# Altium schematic symbol library SparkFun-DiscreteSemi.SCHLIB: 94 symbols
Pins are listed as number, name and electrical type; pins without a type are passive.

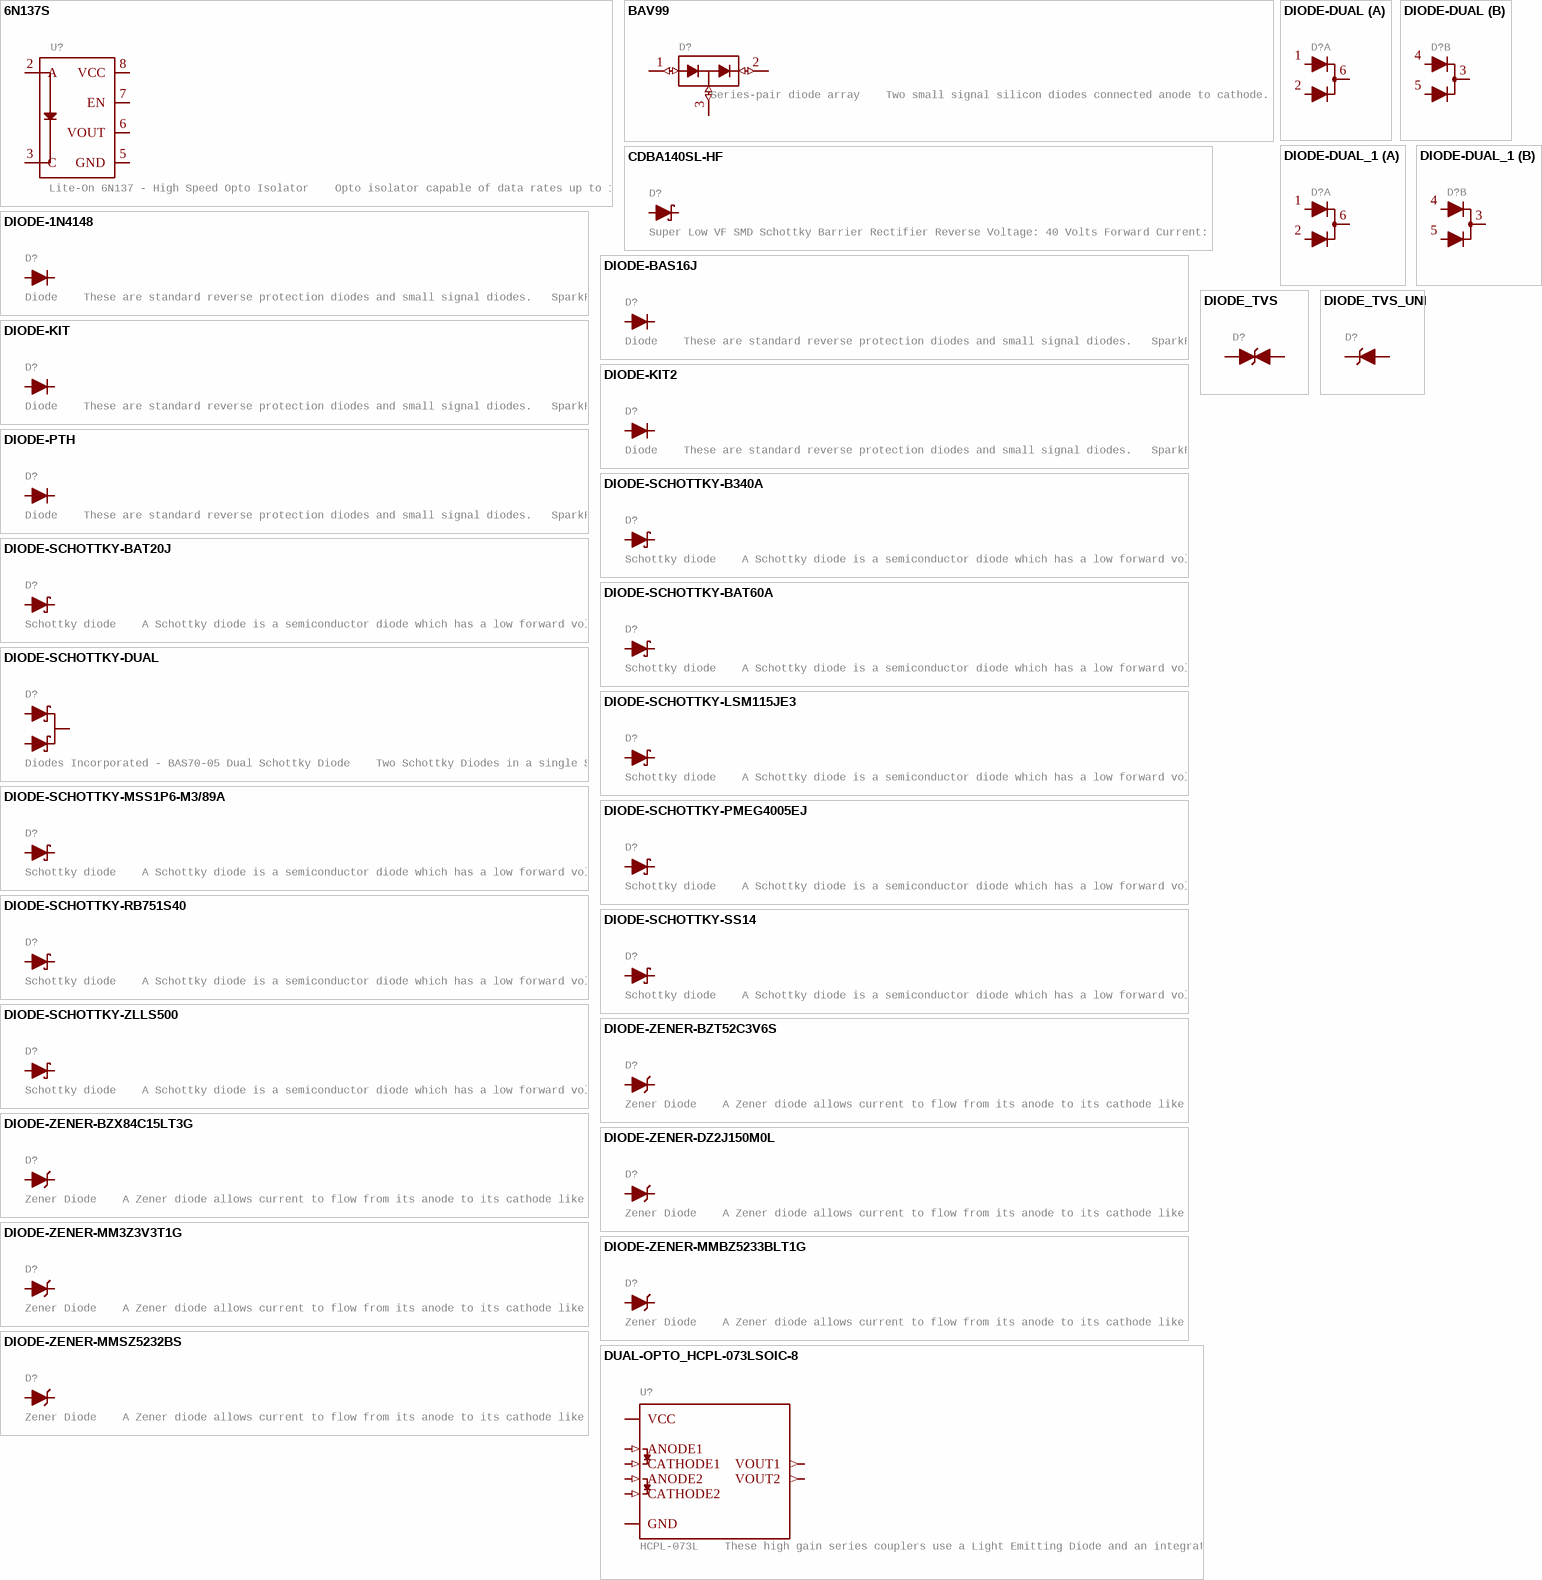
[diagram p0: symbols 6N137S to DUAL-OPTO_HCPL-073LSOIC-8]

## 6N137S
designator U?, comment Lite-On 6N137 - High Speed Opto Isolator    Opto isolator capable of data rates up to 10MBd
GateName_1: G$1; SymbolName_1: OPTO_DARLINGTON_6N137; DeviceSetName: 6N137S; PROD_ID: IC-14151; LibraryName: SparkFun-DiscreteSemi; Package: 8-SMD
footprint 8-SMD
pins: 2 A (io), 3 C (io), 5 GND (io), 6 VOUT (io), 7 EN (io), 8 VCC (io)

## BAV99
designator D?, comment Series-pair diode array    Two small signal silicon diodes connected anode to cathode. Connections to all three nodes available.   Link to datasheet   SparkFun Products: SparkFun AutoDriver
GateName_1: G$1; SymbolName_1: BAV99; PROD_ID: DIO-10647; LibraryName: SparkFun-DiscreteSemi; DeviceSetName: BAV99; Package: SOT23-3
footprint SOT23-3
pins: 1 A1 (io), 2 C2 (io), 3 COM (io)

## CDBA140SL-HF
designator D?, comment Super Low VF SMD Schottky Barrier Rectifier Reverse Voltage: 40 Volts Forward Current: 1.0 Amp
GateName_1: G$1; SymbolName_1: DIODE-SCHOTTKY; DeviceSetName: CDBA140SL-HF; LibraryName: SparkFun-DiscreteSemi; Package: SMA-DIODE
footprint SMA-DIODE
pins: A, C

## DIODE-1N4148
designator D?, comment Diode    These are standard reverse protection diodes and small signal diodes.   SparkFun Products: SparkFun SparkPunk Sound Kit  SparkFun ESP8266 Thing
GateName_1: G$1; DeviceName: -1N4148; PROD_ID: DIO-08378; SymbolName_1: DIODE; LibraryName: SparkFun-DiscreteSemi; DeviceSetName: DIODE; Package: DIODE-1N4148
footprint DIODE-1N4148
pins: A, C

## DIODE-BAS16J
designator D?, comment Diode    These are standard reverse protection diodes and small signal diodes.   SparkFun Products: SparkFun SparkPunk Sound Kit  SparkFun ESP8266 Thing
GateName_1: G$1; DeviceName: -BAS16J; PROD_ID: DIO-09646; SymbolName_1: DIODE; LibraryName: SparkFun-DiscreteSemi; DeviceSetName: DIODE; Package: SOD-323
footprint SOD-323
pins: A, C

## DIODE-DUAL
designator D?
GateName_1: G1; SymbolName_1: DIODE-DUAL; GateName_2: G2; PROD_ID: DIO-15412; SymbolName_2: DIODE-DUAL; LibraryName: SparkFun-DiscreteSemi; DeviceSetName: DIODE-DUAL; Package: SOT363
footprint SOT363
part A pins: 1 A1, 2 A2, 6 C
part B pins: 3 C, 4 A1, 5 A2

## DIODE-DUAL_1
designator D?
GateName_1: G1; SymbolName_1: DIODE-DUAL; GateName_2: G2; PROD_ID: DIO-15412; SymbolName_2: DIODE-DUAL; LibraryName: SparkFun-DiscreteSemi; DeviceSetName: DIODE-DUAL; Package: SOT363
footprint SOT363
part A pins: 1 A1, 2 A2, 6 C
part B pins: 3 C, 4 A1, 5 A2

## DIODE-KIT
designator D?, comment Diode    These are standard reverse protection diodes and small signal diodes.   SparkFun Products: SparkFun SparkPunk Sound Kit  SparkFun ESP8266 Thing
GateName_1: G$1; DeviceName: -KIT; PROD_ID: DIO-08378; SymbolName_1: DIODE; LibraryName: SparkFun-DiscreteSemi; DeviceSetName: DIODE; Package: DIODE-1N4148-KIT
footprint DIODE-1N4148-KIT
pins: A, C

## DIODE-KIT2
designator D?, comment Diode    These are standard reverse protection diodes and small signal diodes.   SparkFun Products: SparkFun SparkPunk Sound Kit  SparkFun ESP8266 Thing
GateName_1: G$1; DeviceName: -KIT2; PROD_ID: DIO-09176; SymbolName_1: DIODE; LibraryName: SparkFun-DiscreteSemi; DeviceSetName: DIODE; Package: DIODE-1N4001-KIT
footprint DIODE-1N4001-KIT
pins: A, C

## DIODE-PTH
designator D?, comment Diode    These are standard reverse protection diodes and small signal diodes.   SparkFun Products: SparkFun SparkPunk Sound Kit  SparkFun ESP8266 Thing
GateName_1: G$1; DeviceName: -PTH; PROD_ID: DIO-09176; SymbolName_1: DIODE; LibraryName: SparkFun-DiscreteSemi; DeviceSetName: DIODE; Package: DIODE-1N4001
footprint DIODE-1N4001
pins: A, C

## DIODE-SCHOTTKY-B340A
designator D?, comment Schottky diode    A Schottky diode is a semiconductor diode which has a low forward voltage drop and a very fast switching action.
GateName_1: G$1; SymbolName_1: DIODE-SCHOTTKY; DeviceName: -B340A; PROD_ID: DIO-09886; LibraryName: SparkFun-DiscreteSemi; DeviceSetName: DIODE-SCHOTTKY; Package: SMA-DIODE
footprint SMA-DIODE
pins: A, C

## DIODE-SCHOTTKY-BAT20J
designator D?, comment Schottky diode    A Schottky diode is a semiconductor diode which has a low forward voltage drop and a very fast switching action.
GateName_1: G$1; SymbolName_1: DIODE-SCHOTTKY; DeviceName: -BAT20J; PROD_ID: DIO-11623; LibraryName: SparkFun-DiscreteSemi; DeviceSetName: DIODE-SCHOTTKY; Package: SOD-323
footprint SOD-323
pins: A, C

## DIODE-SCHOTTKY-BAT60A
designator D?, comment Schottky diode    A Schottky diode is a semiconductor diode which has a low forward voltage drop and a very fast switching action.
GateName_1: G$1; SymbolName_1: DIODE-SCHOTTKY; DeviceName: -BAT60A; PROD_ID: DIO-14072; LibraryName: SparkFun-DiscreteSemi; DeviceSetName: DIODE-SCHOTTKY; Package: SOD-323
footprint SOD-323
pins: A, C

## DIODE-SCHOTTKY-DUAL
designator D?, comment Diodes Incorporated - BAS70-05 Dual Schottky Diode    Two Schottky Diodes in a single SOT-23 package. Low reverse current (100 nA) Vf:   Datasheet referenced for footprint
GateName_1: G$1; SymbolName_1: DIODE-SCHOTTKY-DUAL; PROD_ID: DIO-14829; LibraryName: SparkFun-DiscreteSemi; DeviceSetName: DIODE-SCHOTTKY-DUAL; Package: SOT23-3
footprint SOT23-3
pins: 1 A, 2 A1, 3 C

## DIODE-SCHOTTKY-LSM115JE3
designator D?, comment Schottky diode    A Schottky diode is a semiconductor diode which has a low forward voltage drop and a very fast switching action.
GateName_1: G$1; SymbolName_1: DIODE-SCHOTTKY; DeviceName: -LSM115JE3; PROD_ID: DIO-15217; LibraryName: SparkFun-DiscreteSemi; DeviceSetName: DIODE-SCHOTTKY; Package: DO-214BA
footprint DO-214BA
pins: A, C

## DIODE-SCHOTTKY-MSS1P6-M3/89A
designator D?, comment Schottky diode    A Schottky diode is a semiconductor diode which has a low forward voltage drop and a very fast switching action.
GateName_1: G$1; SymbolName_1: DIODE-SCHOTTKY; DeviceName: -MSS1P6-M3/89A; PROD_ID: DIO-13919; LibraryName: SparkFun-DiscreteSemi; DeviceSetName: DIODE-SCHOTTKY; Package: DIODE-MICRO-SMP
footprint DIODE-MICRO-SMP
pins: A, C

## DIODE-SCHOTTKY-PMEG4005EJ
designator D?, comment Schottky diode    A Schottky diode is a semiconductor diode which has a low forward voltage drop and a very fast switching action.
GateName_1: G$1; SymbolName_1: DIODE-SCHOTTKY; DeviceName: -PMEG4005EJ; PROD_ID: DIO-10955; LibraryName: SparkFun-DiscreteSemi; DeviceSetName: DIODE-SCHOTTKY; Package: SOD-323
footprint SOD-323
pins: A, C

## DIODE-SCHOTTKY-RB751S40
designator D?, comment Schottky diode    A Schottky diode is a semiconductor diode which has a low forward voltage drop and a very fast switching action.
GateName_1: G$1; SymbolName_1: DIODE-SCHOTTKY; DeviceName: -RB751S40; PROD_ID: DIO-11018; LibraryName: SparkFun-DiscreteSemi; DeviceSetName: DIODE-SCHOTTKY; Package: SOD-523
footprint SOD-523
pins: A, C

## DIODE-SCHOTTKY-SS14
designator D?, comment Schottky diode    A Schottky diode is a semiconductor diode which has a low forward voltage drop and a very fast switching action.
GateName_1: G$1; SymbolName_1: DIODE-SCHOTTKY; DeviceName: -SS14; PROD_ID: DIO-08053; LibraryName: SparkFun-DiscreteSemi; DeviceSetName: DIODE-SCHOTTKY; Package: SMA-DIODE
footprint SMA-DIODE
pins: A, C

## DIODE-SCHOTTKY-ZLLS500
designator D?, comment Schottky diode    A Schottky diode is a semiconductor diode which has a low forward voltage drop and a very fast switching action.
GateName_1: G$1; SymbolName_1: DIODE-SCHOTTKY; DeviceName: -ZLLS500; PROD_ID: DIO-08411; LibraryName: SparkFun-DiscreteSemi; DeviceSetName: DIODE-SCHOTTKY; Package: SOT23-3
footprint SOT23-3
pins: 1 A, 3 C

## DIODE-ZENER-BZT52C3V6S
designator D?, comment Zener Diode    A Zener diode allows current to flow from its anode to its cathode like a normal semiconductor diode, but it also permits current to flow in the reverse direction when its "Zener voltage" is reached. - WIkipedia
GateName_1: G$1; SymbolName_1: DIODE-ZENER; DeviceName: -BZT52C3V6S; PROD_ID: DIO-08199; LibraryName: SparkFun-DiscreteSemi; DeviceSetName: DIODE-ZENER; Package: SOD-323
footprint SOD-323
pins: A, C

## DIODE-ZENER-BZX84C15LT3G
designator D?, comment Zener Diode    A Zener diode allows current to flow from its anode to its cathode like a normal semiconductor diode, but it also permits current to flow in the reverse direction when its "Zener voltage" is reached. - WIkipedia
GateName_1: G$1; SymbolName_1: DIODE-ZENER; DeviceName: -BZX84C15LT3G; PROD_ID: DIO-15071; LibraryName: SparkFun-DiscreteSemi; DeviceSetName: DIODE-ZENER; Package: SOT23-3
footprint SOT23-3
pins: 1 A, 3 C

## DIODE-ZENER-DZ2J150M0L
designator D?, comment Zener Diode    A Zener diode allows current to flow from its anode to its cathode like a normal semiconductor diode, but it also permits current to flow in the reverse direction when its "Zener voltage" is reached. - WIkipedia
GateName_1: G$1; SymbolName_1: DIODE-ZENER; DeviceName: -DZ2J150M0L; PROD_ID: DIO-12989; LibraryName: SparkFun-DiscreteSemi; DeviceSetName: DIODE-ZENER; Package: PANASONIC_SMINI2-F5-B
footprint PANASONIC_SMINI2-F5-B
pins: A, C

## DIODE-ZENER-MM3Z3V3T1G
designator D?, comment Zener Diode    A Zener diode allows current to flow from its anode to its cathode like a normal semiconductor diode, but it also permits current to flow in the reverse direction when its "Zener voltage" is reached. - WIkipedia
GateName_1: G$1; SymbolName_1: DIODE-ZENER; DeviceName: -MM3Z3V3T1G; PROD_ID: DIO-11284; LibraryName: SparkFun-DiscreteSemi; DeviceSetName: DIODE-ZENER; Package: SOD-323
footprint SOD-323
pins: A, C

## DIODE-ZENER-MMBZ5233BLT1G
designator D?, comment Zener Diode    A Zener diode allows current to flow from its anode to its cathode like a normal semiconductor diode, but it also permits current to flow in the reverse direction when its "Zener voltage" is reached. - WIkipedia
GateName_1: G$1; SymbolName_1: DIODE-ZENER; DeviceName: -MMBZ5233BLT1G; PROD_ID: DIO-14123; LibraryName: SparkFun-DiscreteSemi; DeviceSetName: DIODE-ZENER; Package: SOT23-3
footprint SOT23-3
pins: 1 A, 3 C

## DIODE-ZENER-MMSZ5232BS
designator D?, comment Zener Diode    A Zener diode allows current to flow from its anode to its cathode like a normal semiconductor diode, but it also permits current to flow in the reverse direction when its "Zener voltage" is reached. - WIkipedia
GateName_1: G$1; SymbolName_1: DIODE-ZENER; DeviceName: -MMSZ5232BS; PROD_ID: DIO-12442; LibraryName: SparkFun-DiscreteSemi; DeviceSetName: DIODE-ZENER; Package: SOD-323
footprint SOD-323
pins: A, C

## DIODE_TVS
designator D?
GateName_1: G$1; SymbolName_1: DIODE-TVS; DeviceSetName: DIODE_TVS; PROD_ID: DIO-14502; LibraryName: SparkFun-DiscreteSemi; Package: 0603
footprint 0603
pins: 1 A, 2 C

## DIODE_TVS_UNI
designator D?
GateName_1: G$1; SymbolName_1: DIODE-TVS_UNI; DeviceSetName: DIODE_TVS_UNI; PROD_ID: DIO-15812; LibraryName: SparkFun-DiscreteSemi; Package: DO-214AC
footprint DO-214AC
pins: A, C

## DUAL-OPTO_HCPL-073LSOIC-8
designator U?, comment HCPL-073L    These high gain series couplers use a Light Emitting Diode and an integrated high gain photodetector to provide extremely high current transfer ratio between input and output. Separate pins for the photodiode and output stage result in LVTTL compatible saturation voltages and high speed operation. Where desired, the VCC and VO terminals may be tied together to achieve conventional photo-darlington operation. A base access terminal allows a gain bandwidth adjustment to be made.    These optocouplers are for use in LVTTL/LVCMOS or other low power applications. A 400% minimum current transfer ratio is guaranteed over 0 to +70ËšC operating range for only 0.5 mA of LED current.    Digikey Link
GateName_1: U1; DeviceName: SOIC-8; DeviceSetName: DUAL-OPTO_HCPL-073L; PROD_ID: IC-15070; SymbolName_1: HCPL-073L; LibraryName: SparkFun-DiscreteSemi; Package: SO08
footprint SO08
pins: 1 ANODE1 (in), 2 CATHODE1 (in), 3 CATHODE2 (in), 4 ANODE2 (in), 5 GND (power), 6 VOUT2 (out), 7 VOUT1 (out), 8 VCC (power)

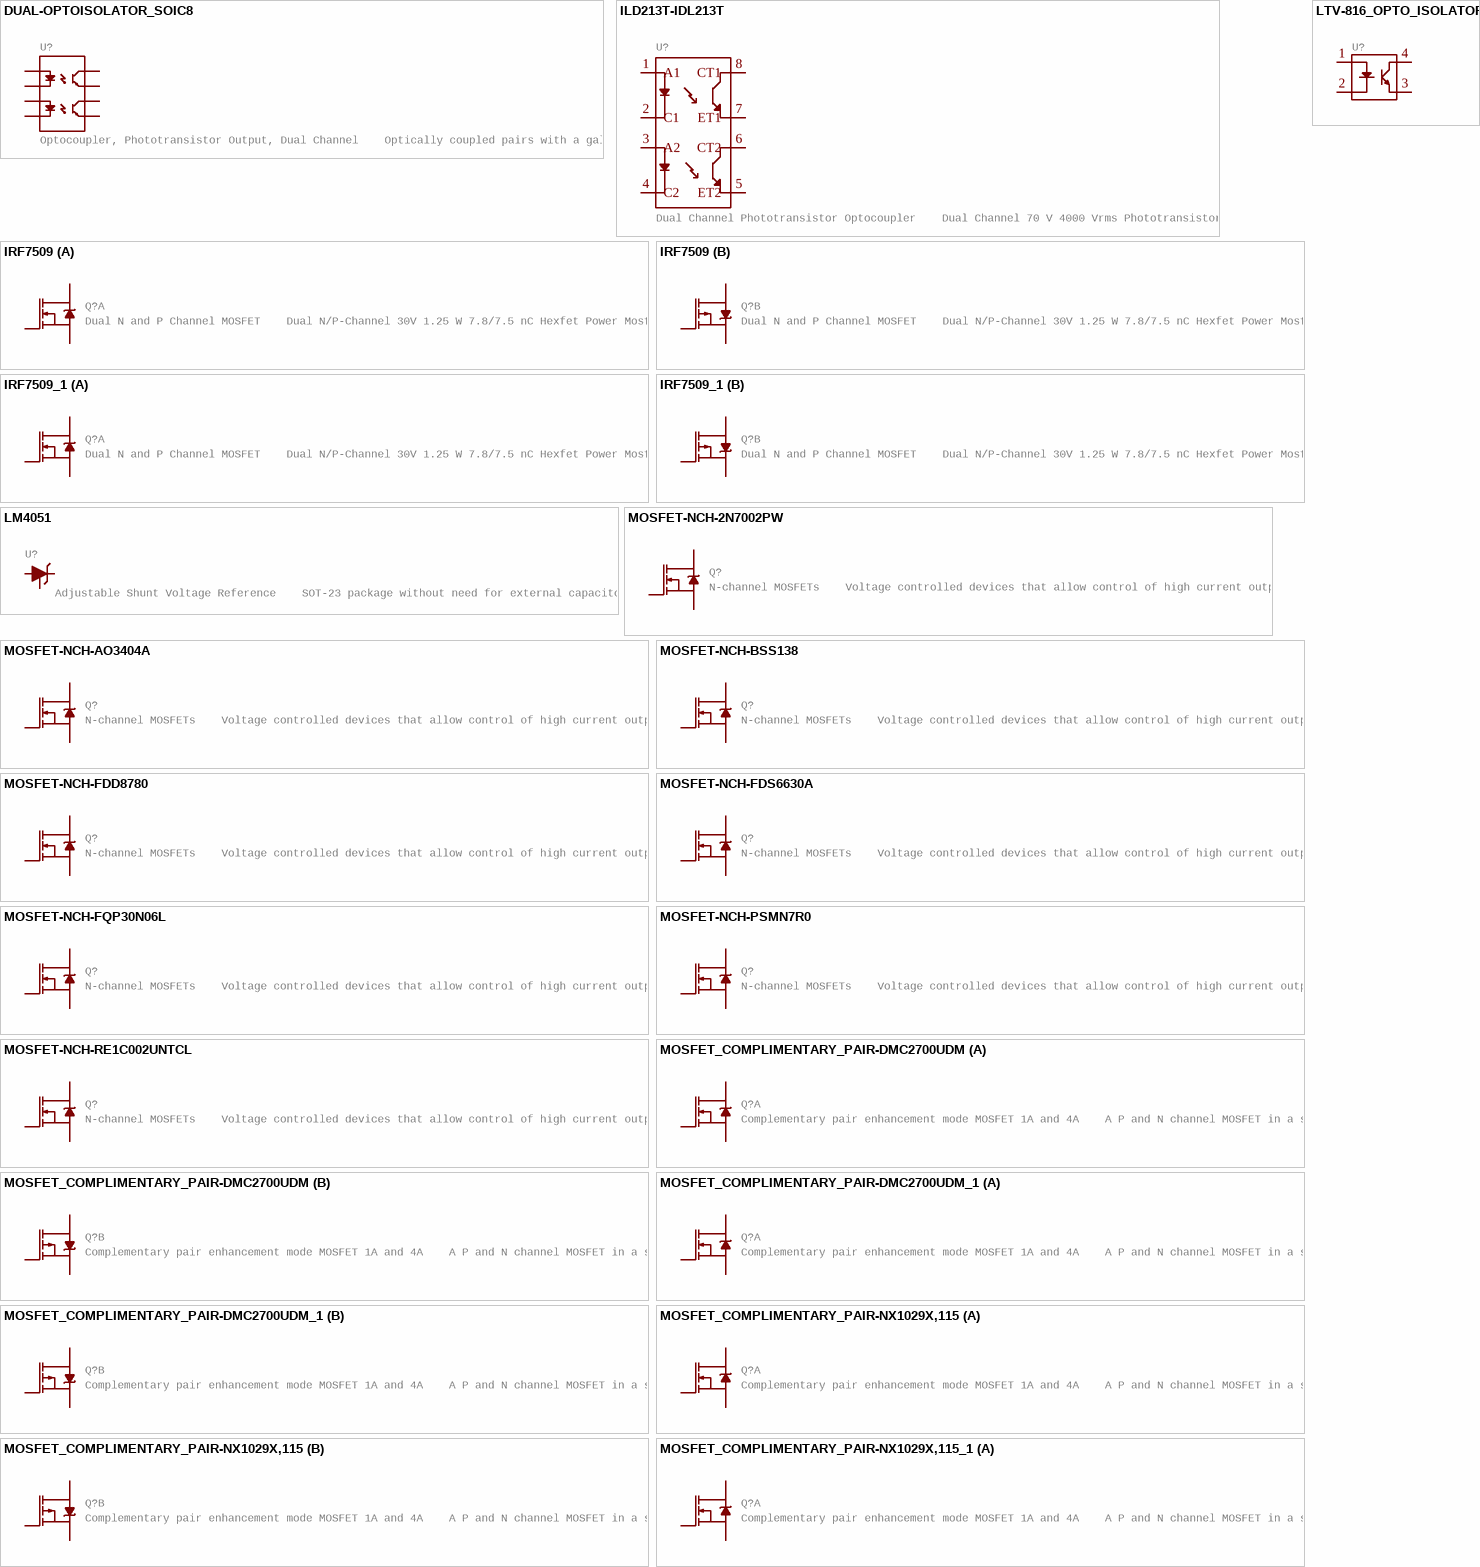
[diagram p1: symbols DUAL-OPTOISOLATOR_SOIC8 to MOSFET_COMPLIMENTARY_PAIR-NX1029X,115_1]

## DUAL-OPTOISOLATOR_SOIC8
designator U?, comment Optocoupler, Phototransistor Output, Dual Channel    Optically coupled pairs with a gallium arsenide infrared LED and a silicon NPN phototransistor.   Signal information, including a DC level, can be transmitted by the device while maintaining a high degree of electrical isolation between input and output.   Datasheet    SparkFun Products: SparkFun Opto-isolator Breakout
GateName_1: G$1; SymbolName_1: OPTOISOLATOR; DeviceName: _SOIC8; DeviceSetName: DUAL-OPTOISOLATOR; PROD_ID: IC-09076; LibraryName: SparkFun-DiscreteSemi; Package: SO08
footprint SO08
pins: 1 A1 (io), 2 C1 (io), 3 A2 (io), 4 C2 (io), 5 EM2 (io), 6 CL2 (io), 7 EM1 (io), 8 CL1 (io)

## ILD213T-IDL213T
designator U?, comment Dual Channel Phototransistor Optocoupler    Dual Channel 70 V 4000 Vrms Phototransistor Optocoupler in a standard SOIC-8 package. Used to couple signals between electrically isolated circuits. Datasheet    SparkFun Products: SparkFun Opto-Isolator Breakout
GateName_1: G$1; SymbolName_1: ILD213T; DeviceName: -IDL213T; PROD_ID: IC-09076; LibraryName: SparkFun-DiscreteSemi; DeviceSetName: ILD213T; Package: SO08
footprint SO08
pins: 1 A1 (io), 2 C1 (io), 3 A2 (io), 4 C2 (io), 5 ET2 (io), 6 CT2 (io), 7 ET1 (io), 8 CT1 (io)

## IRF7509
designator Q?, comment Dual N and P Channel MOSFET    Dual N/P-Channel 30V 1.25 W 7.8/7.5 nC Hexfet Power Mosfet Surface Mount-MICRO-8.   NMOS RDS(ON) 0.11Î©. PMOS RDS(ON) 0.20Î©.   Link to datasheet   SparkFun Products: SparkFun RedBot Mainboard  SparkFun Wake on Shake
SymbolName_1: LABELED-NMOS; SymbolName_2: LABELED-PMOS; DeviceSetName: IRF7509; PROD_ID: TRANS-07913; GateName_1: NMOS; GateName_2: PMOS; LibraryName: SparkFun-DiscreteSemi; Package: MSOP8
footprint MSOP8
part A pins: 1 S (io), 2 G (io), 7,8 D (io)
part B pins: 3 S (io), 4 G (io), 5,6 D (io)

## IRF7509_1
designator Q?, comment Dual N and P Channel MOSFET    Dual N/P-Channel 30V 1.25 W 7.8/7.5 nC Hexfet Power Mosfet Surface Mount-MICRO-8.   NMOS RDS(ON) 0.11Î©. PMOS RDS(ON) 0.20Î©.   Link to datasheet   SparkFun Products: SparkFun RedBot Mainboard  SparkFun Wake on Shake
SymbolName_1: LABELED-NMOS; SymbolName_2: LABELED-PMOS; DeviceSetName: IRF7509; PROD_ID: TRANS-07913; GateName_1: NMOS; GateName_2: PMOS; LibraryName: SparkFun-DiscreteSemi; Package: MSOP8
footprint MSOP8
part A pins: 1 S (io), 2 G (io), 7,8 D (io)
part B pins: 3 S (io), 4 G (io), 5,6 D (io)

## LM4051
designator U?, comment Adjustable Shunt Voltage Reference    SOT-23 package without need for external capacitor. Adjustable from 1.24V to 10V. 60ÂµA to 12mA   SparkFun Products: SparkFun SparkPunk Sound Kit  SparkFun ESP8266 Thing
GateName_1: G$1; SymbolName_1: DIODE-ZENER-ADJ; DeviceSetName: LM4051; PROD_ID: IC-13134; LibraryName: SparkFun-DiscreteSemi; Package: SOT23-3
footprint SOT23-3
pins: 1 ADJ (io), 2 C, 3 A

## LTV-816_OPTO_ISOLATOR"
designator U?
GateName_1: U1; SymbolName_1: LTV-816_OPTO_ISOLATOR; DeviceName: "; PROD_ID: IC-14145; LibraryName: SparkFun-DiscreteSemi; DeviceSetName: LTV-816_OPTO_ISOLATOR; Package: LTV-816_4PIN_DIP
footprint LTV-816_4PIN_DIP
pins: 1 (io), 2 (io), 3 (io), 4 (io)

## MOSFET-NCH-2N7002PW
designator Q?, comment N-channel MOSFETs    Voltage controlled devices that allow control of high current outputs.   SparkFun Products: SparkFun OpenScale  SparkFun Digital Sandbox  SparkFun Monster Moto Shield  SparkFun MOSFET Power Controller
GateName_1: NMOS; SymbolName_1: LABELED-NMOS; DeviceName: -2N7002PW; DeviceSetName: MOSFET-NCH; PROD_ID: TRANS-11151; LibraryName: SparkFun-DiscreteSemi; Package: SOT323
footprint SOT323
pins: 1 G (io), 2 S (io), 3 D (io)

## MOSFET-NCH-AO3404A
designator Q?, comment N-channel MOSFETs    Voltage controlled devices that allow control of high current outputs.   SparkFun Products: SparkFun OpenScale  SparkFun Digital Sandbox  SparkFun Monster Moto Shield  SparkFun MOSFET Power Controller
GateName_1: NMOS; SymbolName_1: LABELED-NMOS; DeviceName: -AO3404A; DeviceSetName: MOSFET-NCH; PROD_ID: TRANS-12988; LibraryName: SparkFun-DiscreteSemi; Package: SOT23-3
footprint SOT23-3
pins: 1 G (io), 2 S (io), 3 D (io)

## MOSFET-NCH-BSS138
designator Q?, comment N-channel MOSFETs    Voltage controlled devices that allow control of high current outputs.   SparkFun Products: SparkFun OpenScale  SparkFun Digital Sandbox  SparkFun Monster Moto Shield  SparkFun MOSFET Power Controller
GateName_1: NMOS; SymbolName_1: LABELED-NMOS; DeviceName: -BSS138; DeviceSetName: MOSFET-NCH; PROD_ID: TRANS-00830; LibraryName: SparkFun-DiscreteSemi; Package: SOT23-3
footprint SOT23-3
pins: 1 G (io), 2 S (io), 3 D (io)

## MOSFET-NCH-FDD8780
designator Q?, comment N-channel MOSFETs    Voltage controlled devices that allow control of high current outputs.   SparkFun Products: SparkFun OpenScale  SparkFun Digital Sandbox  SparkFun Monster Moto Shield  SparkFun MOSFET Power Controller
GateName_1: NMOS; SymbolName_1: LABELED-NMOS; DeviceName: -FDD8780; DeviceSetName: MOSFET-NCH; PROD_ID: TRANS-09984; LibraryName: SparkFun-DiscreteSemi; Package: TO-252/DPAK
footprint TO-252/DPAK
pins: 1 G (io), 2 D (io), 3 S (io)

## MOSFET-NCH-FDS6630A
designator Q?, comment N-channel MOSFETs    Voltage controlled devices that allow control of high current outputs.   SparkFun Products: SparkFun OpenScale  SparkFun Digital Sandbox  SparkFun Monster Moto Shield  SparkFun MOSFET Power Controller
GateName_1: NMOS; SymbolName_1: LABELED-NMOS; DeviceName: -FDS6630A; DeviceSetName: MOSFET-NCH; PROD_ID: TRANS-08089; LibraryName: SparkFun-DiscreteSemi; Package: SO08
footprint SO08
pins: 1-3 S (io), 4 G (io), 5-8 D (io)

## MOSFET-NCH-FQP30N06L
designator Q?, comment N-channel MOSFETs    Voltage controlled devices that allow control of high current outputs.   SparkFun Products: SparkFun OpenScale  SparkFun Digital Sandbox  SparkFun Monster Moto Shield  SparkFun MOSFET Power Controller
GateName_1: NMOS; SymbolName_1: LABELED-NMOS; DeviceName: -FQP30N06L; DeviceSetName: MOSFET-NCH; PROD_ID: TRANS-10060; LibraryName: SparkFun-DiscreteSemi; Package: TO220V
footprint TO220V
pins: 1 G (io), 2 D (io), 3 S (io)

## MOSFET-NCH-PSMN7R0
designator Q?, comment N-channel MOSFETs    Voltage controlled devices that allow control of high current outputs.   SparkFun Products: SparkFun OpenScale  SparkFun Digital Sandbox  SparkFun Monster Moto Shield  SparkFun MOSFET Power Controller
GateName_1: NMOS; SymbolName_1: LABELED-NMOS; DeviceName: -PSMN7R0; DeviceSetName: MOSFET-NCH; PROD_ID: TRANS-12437; LibraryName: SparkFun-DiscreteSemi; Package: TO-263/D2PAK
footprint TO-263/D2PAK
pins: 1 G (io), 2 D (io), 3 S (io)

## MOSFET-NCH-RE1C002UNTCL
designator Q?, comment N-channel MOSFETs    Voltage controlled devices that allow control of high current outputs.   SparkFun Products: SparkFun OpenScale  SparkFun Digital Sandbox  SparkFun Monster Moto Shield  SparkFun MOSFET Power Controller
GateName_1: NMOS; SymbolName_1: LABELED-NMOS; DeviceName: -RE1C002UNTCL; DeviceSetName: MOSFET-NCH; PROD_ID: TRANS-14399; LibraryName: SparkFun-DiscreteSemi; Package: SOT-416FL
footprint SOT-416FL
pins: 1 G (io), 2 S (io), 3 D (io)

## MOSFET_COMPLIMENTARY_PAIR-DMC2700UDM
designator Q?, comment Complementary pair enhancement mode MOSFET 1A and 4A    A P and N channel MOSFET in a single package. Rated to breakdown at 20V.DMC2700 is 1A. SIL2308 is 4A.    Link to datasheet   SparkFun Products: ZX Distance and Gesture Sensor
GateName_1: G1; SymbolName_1: LABELED-NMOS; GateName_2: G2; SymbolName_2: LABELED-PMOS; DeviceName: -DMC2700UDM; DeviceSetName: MOSFET_COMPLIMENTARY_PAIR; PROD_ID: TRANS-11993; LibraryName: SparkFun-DiscreteSemi; Package: SOT26
footprint SOT26
part A pins: D1 D (io), G1 G (io), S1 S (io)
part B pins: D2 D (io), G2 G (io), S2 S (io)

## MOSFET_COMPLIMENTARY_PAIR-DMC2700UDM_1
designator Q?, comment Complementary pair enhancement mode MOSFET 1A and 4A    A P and N channel MOSFET in a single package. Rated to breakdown at 20V.DMC2700 is 1A. SIL2308 is 4A.    Link to datasheet   SparkFun Products: ZX Distance and Gesture Sensor
GateName_1: G1; SymbolName_1: LABELED-NMOS; GateName_2: G2; SymbolName_2: LABELED-PMOS; DeviceName: -DMC2700UDM; DeviceSetName: MOSFET_COMPLIMENTARY_PAIR; PROD_ID: TRANS-11993; LibraryName: SparkFun-DiscreteSemi; Package: SOT26
footprint SOT26
part A pins: D1 D (io), G1 G (io), S1 S (io)
part B pins: D2 D (io), G2 G (io), S2 S (io)

## MOSFET_COMPLIMENTARY_PAIR-NX1029X,115
designator Q?, comment Complementary pair enhancement mode MOSFET 1A and 4A    A P and N channel MOSFET in a single package. Rated to breakdown at 20V.DMC2700 is 1A. SIL2308 is 4A.    Link to datasheet   SparkFun Products: ZX Distance and Gesture Sensor
GateName_1: G1; SymbolName_1: LABELED-NMOS; GateName_2: G2; SymbolName_2: LABELED-PMOS; DeviceName: -NX1029X,115; DeviceSetName: MOSFET_COMPLIMENTARY_PAIR; PROD_ID: IC-15419; LibraryName: SparkFun-DiscreteSemi; Package: SOT563
footprint SOT563
part A pins: 1 S (io), 2 G (io), 6 D (io)
part B pins: 3 D (io), 4 S (io), 5 G (io)

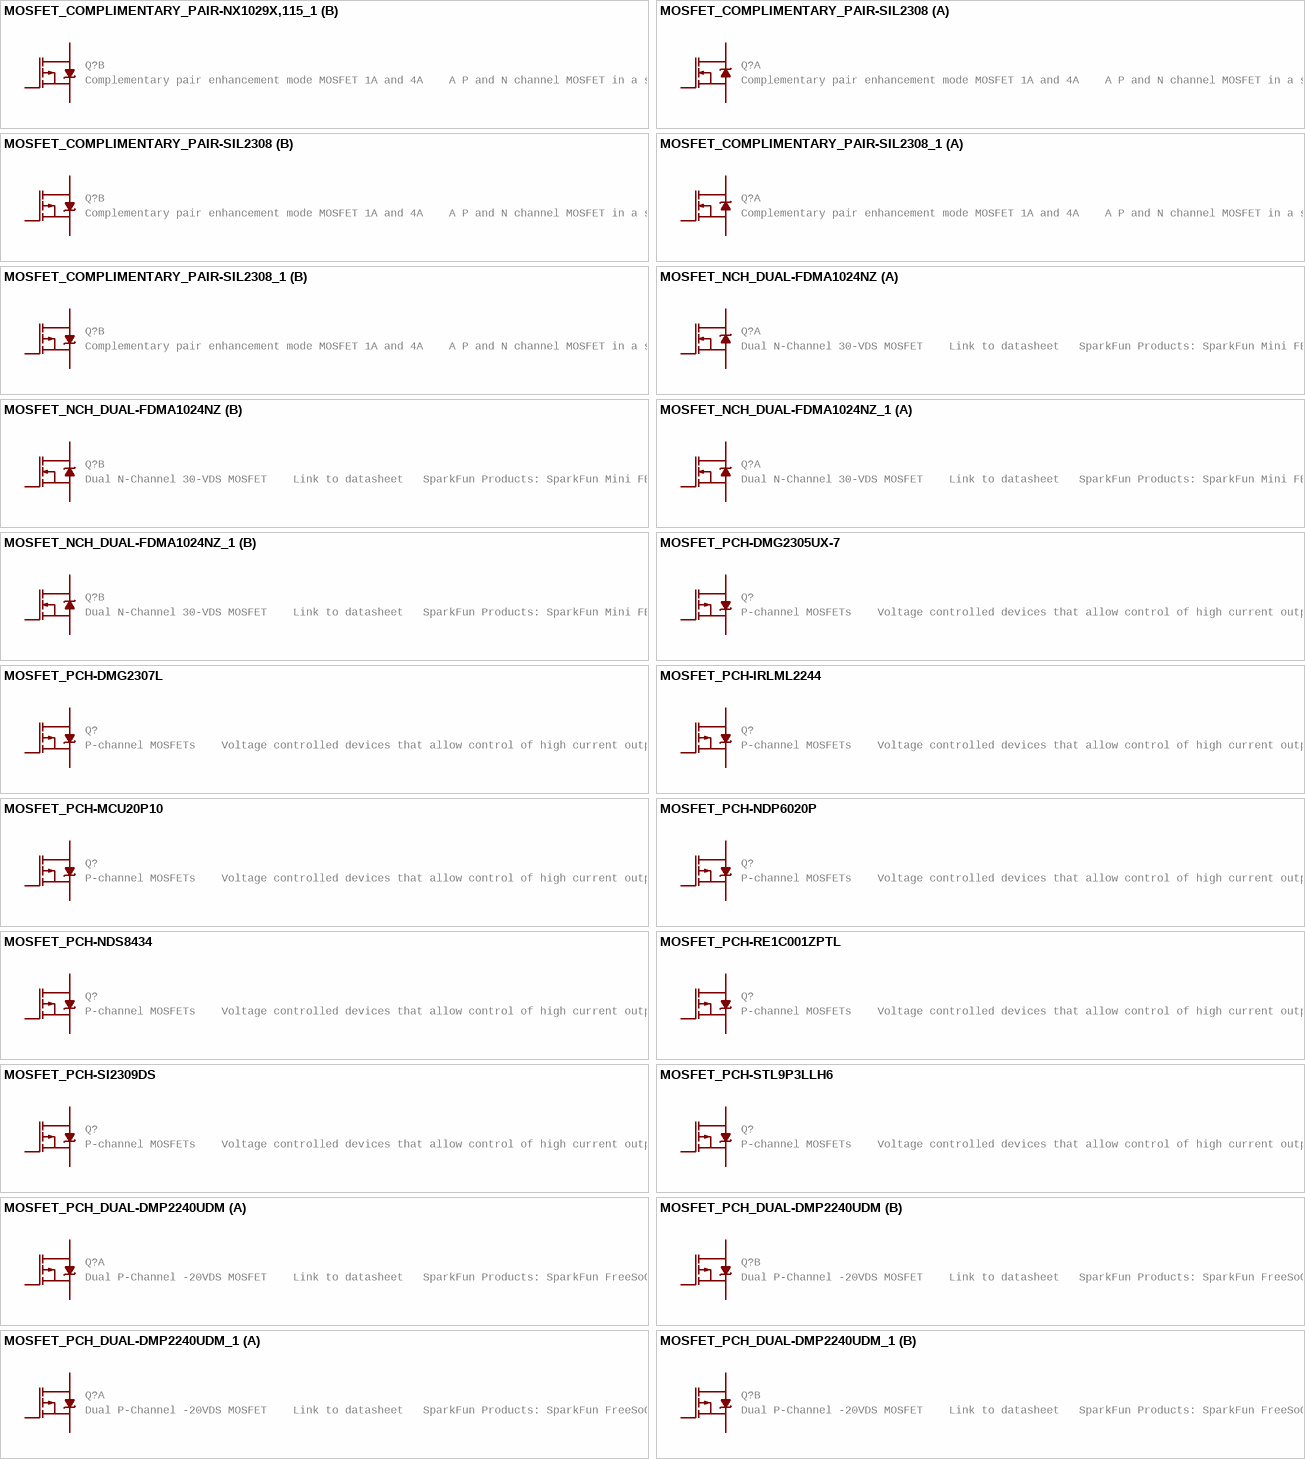
[diagram p2: symbols MOSFET_COMPLIMENTARY_PAIR-NX1029X,115_1 to MOSFET_PCH_DUAL-DMP2240UDM_1]

## MOSFET_COMPLIMENTARY_PAIR-NX1029X,115_1
designator Q?, comment Complementary pair enhancement mode MOSFET 1A and 4A    A P and N channel MOSFET in a single package. Rated to breakdown at 20V.DMC2700 is 1A. SIL2308 is 4A.    Link to datasheet   SparkFun Products: ZX Distance and Gesture Sensor
GateName_1: G1; SymbolName_1: LABELED-NMOS; GateName_2: G2; SymbolName_2: LABELED-PMOS; DeviceName: -NX1029X,115; DeviceSetName: MOSFET_COMPLIMENTARY_PAIR; PROD_ID: IC-15419; LibraryName: SparkFun-DiscreteSemi; Package: SOT563
footprint SOT563
part A pins: 1 S (io), 2 G (io), 6 D (io)
part B pins: 3 D (io), 4 S (io), 5 G (io)

## MOSFET_COMPLIMENTARY_PAIR-SIL2308
designator Q?, comment Complementary pair enhancement mode MOSFET 1A and 4A    A P and N channel MOSFET in a single package. Rated to breakdown at 20V.DMC2700 is 1A. SIL2308 is 4A.    Link to datasheet   SparkFun Products: ZX Distance and Gesture Sensor
GateName_1: G1; SymbolName_1: LABELED-NMOS; GateName_2: G2; SymbolName_2: LABELED-PMOS; DeviceName: -SIL2308; DeviceSetName: MOSFET_COMPLIMENTARY_PAIR; PROD_ID: TRANS-15717; LibraryName: SparkFun-DiscreteSemi; Package: SOT26
footprint SOT26
part A pins: D1 D (io), G1 G (io), S1 S (io)
part B pins: D2 D (io), G2 G (io), S2 S (io)

## MOSFET_COMPLIMENTARY_PAIR-SIL2308_1
designator Q?, comment Complementary pair enhancement mode MOSFET 1A and 4A    A P and N channel MOSFET in a single package. Rated to breakdown at 20V.DMC2700 is 1A. SIL2308 is 4A.    Link to datasheet   SparkFun Products: ZX Distance and Gesture Sensor
GateName_1: G1; SymbolName_1: LABELED-NMOS; GateName_2: G2; SymbolName_2: LABELED-PMOS; DeviceName: -SIL2308; DeviceSetName: MOSFET_COMPLIMENTARY_PAIR; PROD_ID: TRANS-15717; LibraryName: SparkFun-DiscreteSemi; Package: SOT26
footprint SOT26
part A pins: D1 D (io), G1 G (io), S1 S (io)
part B pins: D2 D (io), G2 G (io), S2 S (io)

## MOSFET_NCH_DUAL-FDMA1024NZ
designator Q?, comment Dual N-Channel 30-VDS MOSFET    Link to datasheet   SparkFun Products: SparkFun Mini FET Shield
GateName_1: A; SymbolName_1: LABELED-NMOS; GateName_2: B; DeviceName: -FDMA1024NZ; DeviceSetName: MOSFET_NCH_DUAL; PROD_ID: TRANS-09516; SymbolName_2: LABELED-NMOS; LibraryName: SparkFun-DiscreteSemi; Package: MICROFET_2X2
footprint MICROFET_2X2
part A pins: D1,D1_2 D (io), G1 G (io), S1 S (io)
part B pins: D2,D2_2 D (io), G2 G (io), S2 S (io)

## MOSFET_NCH_DUAL-FDMA1024NZ_1
designator Q?, comment Dual N-Channel 30-VDS MOSFET    Link to datasheet   SparkFun Products: SparkFun Mini FET Shield
GateName_1: A; SymbolName_1: LABELED-NMOS; GateName_2: B; DeviceName: -FDMA1024NZ; DeviceSetName: MOSFET_NCH_DUAL; PROD_ID: TRANS-09516; SymbolName_2: LABELED-NMOS; LibraryName: SparkFun-DiscreteSemi; Package: MICROFET_2X2
footprint MICROFET_2X2
part A pins: D1,D1_2 D (io), G1 G (io), S1 S (io)
part B pins: D2,D2_2 D (io), G2 G (io), S2 S (io)

## MOSFET_PCH-DMG2305UX-7
designator Q?, comment P-channel MOSFETs    Voltage controlled devices that allow control of high current outputs.   SparkFun Products: SparkFun ESP32 Thing  SparkFun ESP8266 Thing  SparkFun Pi Servo HAT V2 DMG2305UX-7 (20V/4.2A/SOT23-3)
GateName_1: G$1; SymbolName_1: LABELED-PMOS; DeviceName: -DMG2305UX-7; DeviceSetName: MOSFET_PCH; PROD_ID: TRANS-14388; LibraryName: SparkFun-DiscreteSemi; Package: SOT23-3
footprint SOT23-3
pins: 1 G (io), 2 S (io), 3 D (io)

## MOSFET_PCH-DMG2307L
designator Q?, comment P-channel MOSFETs    Voltage controlled devices that allow control of high current outputs.   SparkFun Products: SparkFun ESP32 Thing  SparkFun ESP8266 Thing  SparkFun Pi Servo HAT V2 DMG2305UX-7 (20V/4.2A/SOT23-3)
GateName_1: G$1; SymbolName_1: LABELED-PMOS; DeviceName: -DMG2307L; DeviceSetName: MOSFET_PCH; PROD_ID: TRANS-11308; LibraryName: SparkFun-DiscreteSemi; Package: SOT23-3
footprint SOT23-3
pins: 1 G (io), 2 S (io), 3 D (io)

## MOSFET_PCH-IRLML2244
designator Q?, comment P-channel MOSFETs    Voltage controlled devices that allow control of high current outputs.   SparkFun Products: SparkFun ESP32 Thing  SparkFun ESP8266 Thing  SparkFun Pi Servo HAT V2 DMG2305UX-7 (20V/4.2A/SOT23-3)
GateName_1: G$1; SymbolName_1: LABELED-PMOS; DeviceName: -IRLML2244; DeviceSetName: MOSFET_PCH; PROD_ID: TRANS-11153; LibraryName: SparkFun-DiscreteSemi; Package: SOT23-3
footprint SOT23-3
pins: 1 G (io), 2 S (io), 3 D (io)

## MOSFET_PCH-MCU20P10
designator Q?, comment P-channel MOSFETs    Voltage controlled devices that allow control of high current outputs.   SparkFun Products: SparkFun ESP32 Thing  SparkFun ESP8266 Thing  SparkFun Pi Servo HAT V2 DMG2305UX-7 (20V/4.2A/SOT23-3)
GateName_1: G$1; SymbolName_1: LABELED-PMOS; DeviceName: -MCU20P10; DeviceSetName: MOSFET_PCH; PROD_ID: TRAN-15964; LibraryName: SparkFun-DiscreteSemi; Package: TO-252/DPAK
footprint TO-252/DPAK
pins: 1 G (io), 2 D (io), 3 S (io)

## MOSFET_PCH-NDP6020P
designator Q?, comment P-channel MOSFETs    Voltage controlled devices that allow control of high current outputs.   SparkFun Products: SparkFun ESP32 Thing  SparkFun ESP8266 Thing  SparkFun Pi Servo HAT V2 DMG2305UX-7 (20V/4.2A/SOT23-3)
GateName_1: G$1; SymbolName_1: LABELED-PMOS; DeviceName: -NDP6020P; DeviceSetName: MOSFET_PCH; PROD_ID: TRANS-13060; LibraryName: SparkFun-DiscreteSemi; Package: TO220V
footprint TO220V
pins: 1 G (io), 2 D (io), 3 S (io)

## MOSFET_PCH-NDS8434
designator Q?, comment P-channel MOSFETs    Voltage controlled devices that allow control of high current outputs.   SparkFun Products: SparkFun ESP32 Thing  SparkFun ESP8266 Thing  SparkFun Pi Servo HAT V2 DMG2305UX-7 (20V/4.2A/SOT23-3)
GateName_1: G$1; SymbolName_1: LABELED-PMOS; DeviceName: -NDS8434; DeviceSetName: MOSFET_PCH; PROD_ID: TRANS-08355; LibraryName: SparkFun-DiscreteSemi; Package: SO08
footprint SO08
pins: 1-3 S (io), 4 G (io), 5-8 D (io)

## MOSFET_PCH-RE1C001ZPTL
designator Q?, comment P-channel MOSFETs    Voltage controlled devices that allow control of high current outputs.   SparkFun Products: SparkFun ESP32 Thing  SparkFun ESP8266 Thing  SparkFun Pi Servo HAT V2 DMG2305UX-7 (20V/4.2A/SOT23-3)
GateName_1: G$1; SymbolName_1: LABELED-PMOS; DeviceName: -RE1C001ZPTL; DeviceSetName: MOSFET_PCH; PROD_ID: TRANS-15421; LibraryName: SparkFun-DiscreteSemi; Package: SOT-416FL
footprint SOT-416FL
pins: 1 G (io), 2 S (io), 3 D (io)

## MOSFET_PCH-SI2309DS
designator Q?, comment P-channel MOSFETs    Voltage controlled devices that allow control of high current outputs.   SparkFun Products: SparkFun ESP32 Thing  SparkFun ESP8266 Thing  SparkFun Pi Servo HAT V2 DMG2305UX-7 (20V/4.2A/SOT23-3)
GateName_1: G$1; SymbolName_1: LABELED-PMOS; DeviceName: -SI2309DS; DeviceSetName: MOSFET_PCH; PROD_ID: TRANS-08285; LibraryName: SparkFun-DiscreteSemi; Package: SOT23-3
footprint SOT23-3
pins: 1 G (io), 2 S (io), 3 D (io)

## MOSFET_PCH-STL9P3LLH6
designator Q?, comment P-channel MOSFETs    Voltage controlled devices that allow control of high current outputs.   SparkFun Products: SparkFun ESP32 Thing  SparkFun ESP8266 Thing  SparkFun Pi Servo HAT V2 DMG2305UX-7 (20V/4.2A/SOT23-3)
GateName_1: G$1; SymbolName_1: LABELED-PMOS; DeviceName: -STL9P3LLH6; DeviceSetName: MOSFET_PCH; PROD_ID: TRANS-14715; LibraryName: SparkFun-DiscreteSemi; Package: 8-POWERVDFN-3X3
footprint 8-POWERVDFN-3X3
pins: 1-3 S (io), 4 G (io), 551-53 D (io)

## MOSFET_PCH_DUAL-DMP2240UDM
designator Q?, comment Dual P-Channel -20VDS MOSFET    Link to datasheet   SparkFun Products: SparkFun FreeSoC2 Development Board
GateName_1: A; SymbolName_1: LABELED-PMOS; GateName_2: B; DeviceName: -DMP2240UDM; DeviceSetName: MOSFET_PCH_DUAL; PROD_ID: TRANS-12444; SymbolName_2: LABELED-PMOS; LibraryName: SparkFun-DiscreteSemi; Package: SOT26
footprint SOT26
part A pins: D1 D (io), G1 G (io), S1 S (io)
part B pins: D2 D (io), G2 G (io), S2 S (io)

## MOSFET_PCH_DUAL-DMP2240UDM_1
designator Q?, comment Dual P-Channel -20VDS MOSFET    Link to datasheet   SparkFun Products: SparkFun FreeSoC2 Development Board
GateName_1: A; SymbolName_1: LABELED-PMOS; GateName_2: B; DeviceName: -DMP2240UDM; DeviceSetName: MOSFET_PCH_DUAL; PROD_ID: TRANS-12444; SymbolName_2: LABELED-PMOS; LibraryName: SparkFun-DiscreteSemi; Package: SOT26
footprint SOT26
part A pins: D1 D (io), G1 G (io), S1 S (io)
part B pins: D2 D (io), G2 G (io), S2 S (io)

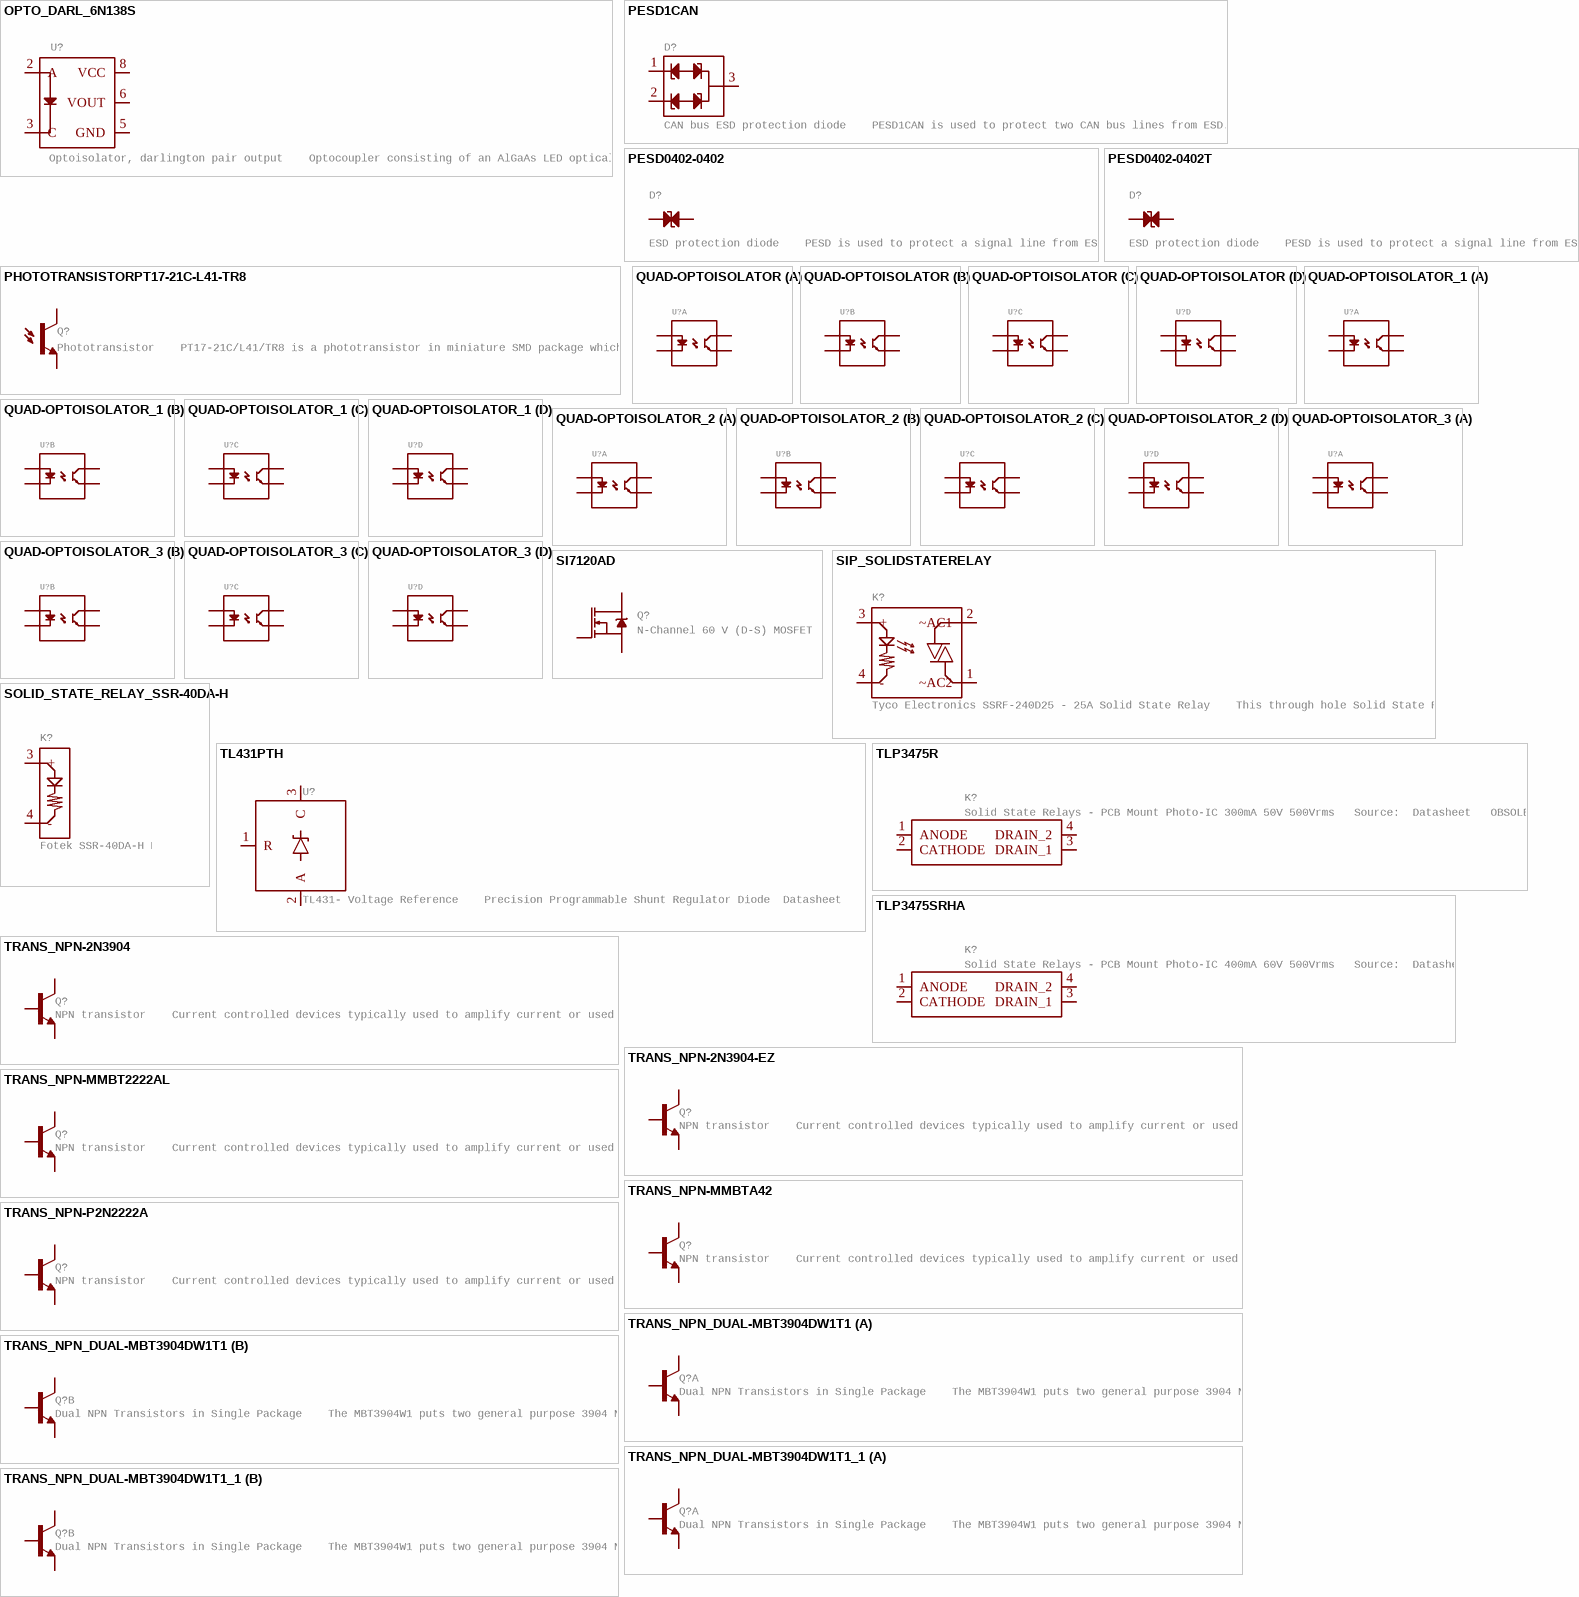
[diagram p3: symbols OPTO_DARL_6N138S to TRANS_NPN_DUAL-MBT3904DW1T1_1]

## OPTO_DARL_6N138S
designator U?, comment Optoisolator, darlington pair output    Optocoupler consisting of an AlGaAs LED optically coupled to a high gain split darlington photodetector.   SparkFun Products: SparkFun MIDI Shield
GateName_1: G$1; SymbolName_1: OPTO_DARLINGTON; DeviceSetName: OPTO_DARL_6N138S; PROD_ID: IC-09482; LibraryName: SparkFun-DiscreteSemi; Package: 8-SMD
footprint 8-SMD
pins: 2 A (io), 3 C (io), 5 GND (io), 6 VOUT (io), 8 VCC (io)

## PESD1CAN
designator D?, comment CAN bus ESD protection diode    PESD1CAN is used to protect two CAN bus lines from ESD.   Link to datasheet   SparkFun Products: SparkFun CAN-BUS Shield
GateName_1: G$1; SymbolName_1: PESD1CAN_DIODE; PROD_ID: DIO-12501; LibraryName: SparkFun-DiscreteSemi; DeviceSetName: PESD1CAN; Package: SOT23-3
footprint SOT23-3
pins: 1 (io), 2 (io), 3 (io)

## PESD0402-0402
designator D?, comment ESD protection diode    PESD is used to protect a signal line from ESD.
MOUSE_PART: 650-PESD0402-140; GateName_1: D1; SymbolName_1: PESD0402; DeviceName: -0402; PROD_ID: DIO-15359; LibraryName: SparkFun-DiscreteSemi; DeviceSetName: PESD0402; Package: 0402; DIGIKEY_PART: PESD0402-140CT-ND
footprint 0402
pins: 1 (io), 2 (io)

## PESD0402-0402T
designator D?, comment ESD protection diode    PESD is used to protect a signal line from ESD.
GateName_1: D1; SymbolName_1: PESD0402; DeviceName: -0402T; PROD_ID: DIO-15359; LibraryName: SparkFun-DiscreteSemi; DeviceSetName: PESD0402; Package: 0402-TIGHT
footprint 0402-TIGHT
pins: 1 (io), 2 (io)

## PHOTOTRANSISTORPT17-21C-L41-TR8
designator Q?, comment Phototransistor    PT17-21C/L41/TR8 is a phototransistor in miniature SMD package which is molded in a water clear with flat top view lens.  The device is Spectrally matched to visible and infrared emitting diode.  Datasheet    SparkFun Products: SparkFun Electric Imp imp002 Breakout
GateName_1: G$1; DeviceName: PT17-21C-L41-TR8; PROD_ID: TRANS-12141; SymbolName_1: PHOTOTRANSISTOR; LibraryName: SparkFun-DiscreteSemi; DeviceSetName: PHOTOTRANSISTOR; Package: PT17-21C-L41-TR8
footprint PT17-21C-L41-TR8
pins: C, E

## QUAD-OPTOISOLATOR
designator U?
GateName_1: G1; SymbolName_1: OPTOISOLATOR_SINGLE; GateName_2: G2; GateName_3: G3; GateName_4: G4; DeviceSetName: QUAD-OPTOISOLATOR; PROD_ID: IC-14121; SymbolName_2: OPTOISOLATOR_SINGLE; SymbolName_3: OPTOISOLATOR_SINGLE; SymbolName_4: OPTOISOLATOR_SINGLE; LibraryName: SparkFun-DiscreteSemi; Package: SO16
footprint SO16
part A pins: 1 A1 (io), 2 C1 (io), 15 EM1 (io), 16 CL1 (io)
part B pins: 3 A1 (io), 4 C1 (io), 13 EM1 (io), 14 CL1 (io)
part C pins: 5 A1 (io), 6 C1 (io), 11 EM1 (io), 12 CL1 (io)
part D pins: 7 A1 (io), 8 C1 (io), 9 EM1 (io), 10 CL1 (io)

## QUAD-OPTOISOLATOR_1
designator U?
GateName_1: G1; SymbolName_1: OPTOISOLATOR_SINGLE; GateName_2: G2; GateName_3: G3; GateName_4: G4; DeviceSetName: QUAD-OPTOISOLATOR; PROD_ID: IC-14121; SymbolName_2: OPTOISOLATOR_SINGLE; SymbolName_3: OPTOISOLATOR_SINGLE; SymbolName_4: OPTOISOLATOR_SINGLE; LibraryName: SparkFun-DiscreteSemi; Package: SO16
footprint SO16
part A pins: 1 A1 (io), 2 C1 (io), 15 EM1 (io), 16 CL1 (io)
part B pins: 3 A1 (io), 4 C1 (io), 13 EM1 (io), 14 CL1 (io)
part C pins: 5 A1 (io), 6 C1 (io), 11 EM1 (io), 12 CL1 (io)
part D pins: 7 A1 (io), 8 C1 (io), 9 EM1 (io), 10 CL1 (io)

## QUAD-OPTOISOLATOR_2
designator U?
GateName_1: G1; SymbolName_1: OPTOISOLATOR_SINGLE; GateName_2: G2; GateName_3: G3; GateName_4: G4; DeviceSetName: QUAD-OPTOISOLATOR; PROD_ID: IC-14121; SymbolName_2: OPTOISOLATOR_SINGLE; SymbolName_3: OPTOISOLATOR_SINGLE; SymbolName_4: OPTOISOLATOR_SINGLE; LibraryName: SparkFun-DiscreteSemi; Package: SO16
footprint SO16
part A pins: 1 A1 (io), 2 C1 (io), 15 EM1 (io), 16 CL1 (io)
part B pins: 3 A1 (io), 4 C1 (io), 13 EM1 (io), 14 CL1 (io)
part C pins: 5 A1 (io), 6 C1 (io), 11 EM1 (io), 12 CL1 (io)
part D pins: 7 A1 (io), 8 C1 (io), 9 EM1 (io), 10 CL1 (io)

## QUAD-OPTOISOLATOR_3
designator U?
GateName_1: G1; SymbolName_1: OPTOISOLATOR_SINGLE; GateName_2: G2; GateName_3: G3; GateName_4: G4; DeviceSetName: QUAD-OPTOISOLATOR; PROD_ID: IC-14121; SymbolName_2: OPTOISOLATOR_SINGLE; SymbolName_3: OPTOISOLATOR_SINGLE; SymbolName_4: OPTOISOLATOR_SINGLE; LibraryName: SparkFun-DiscreteSemi; Package: SO16
footprint SO16
part A pins: 1 A1 (io), 2 C1 (io), 15 EM1 (io), 16 CL1 (io)
part B pins: 3 A1 (io), 4 C1 (io), 13 EM1 (io), 14 CL1 (io)
part C pins: 5 A1 (io), 6 C1 (io), 11 EM1 (io), 12 CL1 (io)
part D pins: 7 A1 (io), 8 C1 (io), 9 EM1 (io), 10 CL1 (io)

## SI7120AD
designator Q?, comment N-Channel 60 V (D-S) MOSFET
GateName_1: G$1; SymbolName_1: LABELED-NMOS-1; DeviceSetName: SI7120AD; PROD_ID: TRAN-15814; LibraryName: SparkFun-DiscreteSemi; Package: 1212-8
footprint 1212-8
pins: 1-3 S (io), 4 G (io), 5,6,7,8,PAD D (io)

## SIP_SOLIDSTATERELAY
designator K?, comment Tyco Electronics SSRF-240D25 - 25A Solid State Relay    This through hole Solid State Relay is capable of handling up to 25A and uses Zero-Crossing to minimize interference when switching an AC load
GateName_1: G$1; SymbolName_1: SOLIDSTATE_RELAY; DeviceSetName: SIP_SOLIDSTATERELAY; PROD_ID: COM-15155; LibraryName: SparkFun-DiscreteSemi; Package: PTH_SOLIDSTATERELAY
footprint PTH_SOLIDSTATERELAY
pins: 1 ~AC2 (io), 2 ~AC1 (io), 3 + (io), 4 - (io)

## SOLID_STATE_RELAY_SSR-40DA-H
designator K?, comment Fotek SSR-40DA-H DC->AC Solid State Relay    This particular SSR can switch current loads of up to 40A with a 3-32V DC input and a zero cross trigger control method. Each one of these relays is equipped with four screw terminals (for use with ring or fork connectors) and a plastic cover that slides over the top of the relay to protect the terminals.
GateName_1: G$1; DeviceSetName: SOLID_STATE_RELAY_SSR-40DA-H; PROD_ID: COMP-15116, CONN-08399, 2 x HW-15038; SymbolName_1: SSR-40DA-H; LibraryName: SparkFun-DiscreteSemi; Package: SSR-40DA-H
footprint SSR-40DA-H
pins: 3 + (io), 4 - (io)

## TL431PTH
designator U?, comment TL431- Voltage Reference    Precision Programmable Shunt Regulator Diode  Datasheet    SparkFun Products: TL431-Voltage Reference PTH  SparkFun Uh-Oh Battery Level Indicator
GateName_1: G$1; SymbolName_1: TL431; PROD_ID: IC-10947; SF_ID: COM-11078; DeviceName: PTH; LibraryName: SparkFun-DiscreteSemi; DeviceSetName: TL431; Package: TO-92
footprint TO-92
pins: 1 R (io), 2 A (io), 3 C (io)

## TLP3475R
designator K?, comment Solid State Relays - PCB Mount Photo-IC 300mA 50V 500Vrms   Source:  Datasheet   OBSOLETE - use TLP3475SRHA
MANUFACTURER_NAME: Toshiba; GateName_1: G$1; SymbolName_1: TLP3475R; PROD_ID: IC-15447; LibraryName: SparkFun-DiscreteSemi; DeviceSetName: TLP3475R; Package: TLP3475RTPF; DESCRIPTION: Solid State Relays - PCB Mount Photo-IC 300mA 50V 500Vrms; DIGIKEY_PART: TLP3475R(TPFCT-ND - Cut Tape (CT); MANUFACTURER_PART_NUMBER: TLP3475R
footprint TLP3475RTPF
pins: 1 ANODE (io), 2 CATHODE (io), 3 DRAIN_1 (io), 4 DRAIN_2 (io)

## TLP3475SRHA
designator K?, comment Solid State Relays - PCB Mount Photo-IC 400mA 60V 500Vrms   Source:  Datasheet
MANUFACTURER_NAME: Toshiba; GateName_1: G$1; SymbolName_1: TLP3475SRHA; PROD_ID: IC-16019; LibraryName: SparkFun-DiscreteSemi; DeviceSetName: TLP3475SRHA; Package: TLP3475SRHA; DESCRIPTION: Solid State Relays - PCB Mount Photo-IC 400mA 60V 500Vrms; DIGIKEY_PART: 264-TLP3475SRHA(TPECT-ND - Cut Tape (CT); MANUFACTURER_PART_NUMBER: TLP3475SRHA
footprint TLP3475SRHA
pins: 1 ANODE (io), 2 CATHODE (io), 3 DRAIN_1 (io), 4 DRAIN_2 (io)

## TRANS_NPN-2N3904
designator Q?, comment NPN transistor    Current controlled devices typically used to amplify current or used as a switch.         BC547 -     COM-08928    (TO-92 45V 100mA) (1.Collector 2.Base 3.Emitter)             2N3904 -     COM-00521    (TO-92 40V 200mA) (1.Emitter 2.Base 3.Collector)             P2N2222A -     COM-12852    (TO-92 40V 600mA) (1.Collector 2.Base 3.Emitter)
GateName_1: G$1; DeviceName: -2N3904; DeviceSetName: TRANS_NPN; PROD_ID: TRANS-08447; SymbolName_1: NPN; LibraryName: SparkFun-DiscreteSemi; Package: TO-92
footprint TO-92
pins: 1 E, 2 B, 3 C

## TRANS_NPN-2N3904-EZ
designator Q?, comment NPN transistor    Current controlled devices typically used to amplify current or used as a switch.         BC547 -     COM-08928    (TO-92 45V 100mA) (1.Collector 2.Base 3.Emitter)             2N3904 -     COM-00521    (TO-92 40V 200mA) (1.Emitter 2.Base 3.Collector)             P2N2222A -     COM-12852    (TO-92 40V 600mA) (1.Collector 2.Base 3.Emitter)
GateName_1: G$1; DeviceName: -2N3904-EZ; DeviceSetName: TRANS_NPN; PROD_ID: TRANS-08447; SymbolName_1: NPN; LibraryName: SparkFun-DiscreteSemi; Package: TO-92-EZ
footprint TO-92-EZ
pins: 1 E, 2 B, 3 C

## TRANS_NPN-MMBT2222AL
designator Q?, comment NPN transistor    Current controlled devices typically used to amplify current or used as a switch.         BC547 -     COM-08928    (TO-92 45V 100mA) (1.Collector 2.Base 3.Emitter)             2N3904 -     COM-00521    (TO-92 40V 200mA) (1.Emitter 2.Base 3.Collector)             P2N2222A -     COM-12852    (TO-92 40V 600mA) (1.Collector 2.Base 3.Emitter)
GateName_1: G$1; DeviceName: -MMBT2222AL; DeviceSetName: TRANS_NPN; PROD_ID: TRANS-08049; SymbolName_1: NPN; LibraryName: SparkFun-DiscreteSemi; Package: SOT23-3
footprint SOT23-3
pins: 1 B, 2 E, 3 C

## TRANS_NPN-MMBTA42
designator Q?, comment NPN transistor    Current controlled devices typically used to amplify current or used as a switch.         BC547 -     COM-08928    (TO-92 45V 100mA) (1.Collector 2.Base 3.Emitter)             2N3904 -     COM-00521    (TO-92 40V 200mA) (1.Emitter 2.Base 3.Collector)             P2N2222A -     COM-12852    (TO-92 40V 600mA) (1.Collector 2.Base 3.Emitter)
GateName_1: G$1; DeviceName: -MMBTA42; DeviceSetName: TRANS_NPN; PROD_ID: TRANS-09116; SymbolName_1: NPN; LibraryName: SparkFun-DiscreteSemi; Package: SOT23-3
footprint SOT23-3
pins: 1 B, 2 E, 3 C

## TRANS_NPN-P2N2222A
designator Q?, comment NPN transistor    Current controlled devices typically used to amplify current or used as a switch.         BC547 -     COM-08928    (TO-92 45V 100mA) (1.Collector 2.Base 3.Emitter)             2N3904 -     COM-00521    (TO-92 40V 200mA) (1.Emitter 2.Base 3.Collector)             P2N2222A -     COM-12852    (TO-92 40V 600mA) (1.Collector 2.Base 3.Emitter)
GateName_1: G$1; DeviceName: -P2N2222A; DeviceSetName: TRANS_NPN; PROD_ID: TRANS-09536; SymbolName_1: NPN; LibraryName: SparkFun-DiscreteSemi; Package: TO-92
footprint TO-92
pins: 1 C, 2 B, 3 E

## TRANS_NPN_DUAL-MBT3904DW1T1
designator Q?, comment Dual NPN Transistors in Single Package    The MBT3904W1 puts two general purpose 3904 NPN transistors in a single package.   Datasheet   SparkFun Products: SparkFun ESP32 Thing
GateName_1: G1; GateName_2: G2; DeviceName: -MBT3904DW1T1; DeviceSetName: TRANS_NPN_DUAL; PROD_ID: TRANS-13337; SymbolName_1: NPN; SymbolName_2: NPN; LibraryName: SparkFun-DiscreteSemi; Package: SC70-6
footprint SC70-6
part A pins: 3 C, 4 E, 5 B
part B pins: 1 E, 2 B, 6 C

## TRANS_NPN_DUAL-MBT3904DW1T1_1
designator Q?, comment Dual NPN Transistors in Single Package    The MBT3904W1 puts two general purpose 3904 NPN transistors in a single package.   Datasheet   SparkFun Products: SparkFun ESP32 Thing
GateName_1: G1; GateName_2: G2; DeviceName: -MBT3904DW1T1; DeviceSetName: TRANS_NPN_DUAL; PROD_ID: TRANS-13337; SymbolName_1: NPN; SymbolName_2: NPN; LibraryName: SparkFun-DiscreteSemi; Package: SC70-6
footprint SC70-6
part A pins: 3 C, 4 E, 5 B
part B pins: 1 E, 2 B, 6 C

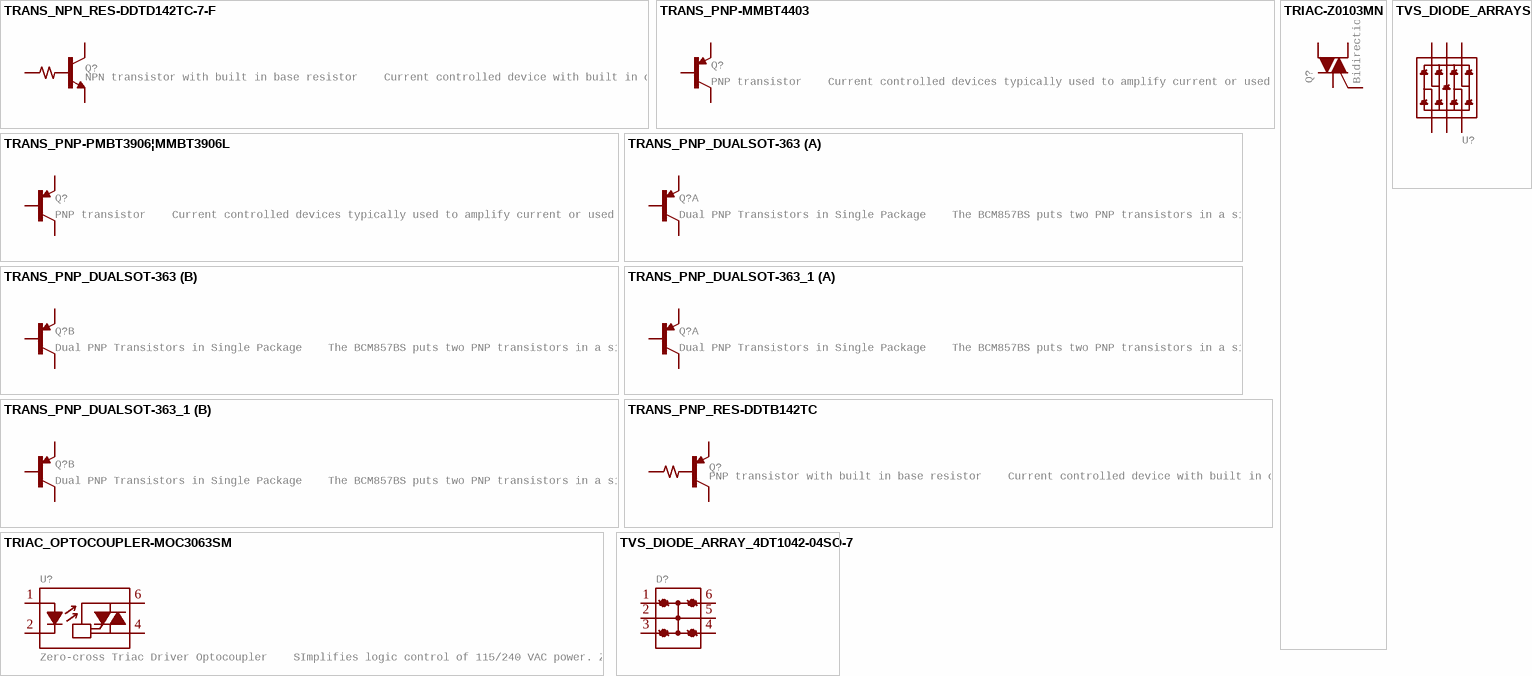
[diagram p4: symbols TRANS_NPN_RES-DDTD142TC-7-F to TVS_DIODE_ARRAYSMD]

## TRANS_NPN_RES-DDTD142TC-7-F
designator Q?, comment NPN transistor with built in base resistor    Current controlled device with built in current control for tighter layouts.   Link to datasheet.   SparkFun Products: SparkFun OpenSegment Serial Display - White  SparkFun OpenSegment Serial Display - Red
GateName_1: G$1; SymbolName_1: NPN_RESISTOR; DeviceName: -DDTD142TC-7-F; DeviceSetName: TRANS_NPN_RES; PROD_ID: TRANS-11480; LibraryName: SparkFun-DiscreteSemi; Package: SOT23-3
footprint SOT23-3
pins: 1 B, 2 E, 3 C

## TRANS_PNP-MMBT4403
designator Q?, comment PNP transistor    Current controlled devices typically used to amplify current or used as a switch.   SparkFun Products: SparkFun Serial Enabled 16x2 LCD - Red on Black  SparkFun Logomatic
GateName_1: G$1; DeviceName: -MMBT4403; DeviceSetName: TRANS_PNP; PROD_ID: TRANS-09245; SymbolName_1: PNP; LibraryName: SparkFun-DiscreteSemi; Package: SOT23-3
footprint SOT23-3
pins: 1 B, 2 E, 3 C

## TRANS_PNP-PMBT3906|MMBT3906L
designator Q?, comment PNP transistor    Current controlled devices typically used to amplify current or used as a switch.   SparkFun Products: SparkFun Serial Enabled 16x2 LCD - Red on Black  SparkFun Logomatic
GateName_1: G$1; DeviceName: -PMBT3906|MMBT3906L; DeviceSetName: TRANS_PNP; PROD_ID: TRANS-08052; SymbolName_1: PNP; LibraryName: SparkFun-DiscreteSemi; Package: SOT23-3
footprint SOT23-3
pins: 1 B, 2 E, 3 C

## TRANS_PNP_DUALSOT-363
designator Q?, comment Dual PNP Transistors in Single Package    The BCM857BS puts two PNP transistors in a single package.   Bipolar (BJT) Transistor Array 2 PNP (Dual) 45V 100mA 100MHz 200mW Surface Mount SOT-363   Datasheet   SparkFun Products: SparkFun Pi Servo HAT V2
GateName_1: G1; GateName_2: G2; DeviceSetName: TRANS_PNP_DUAL; PROD_ID: TRANS-14386; SymbolName_1: PNP; SymbolName_2: PNP; DeviceName: SOT-363; LibraryName: SparkFun-DiscreteSemi; Package: SOT363_PHILIPS
footprint SOT363_PHILIPS
part A pins: 1 E, 2 B, 6 C
part B pins: 3 C, 4 E, 5 B

## TRANS_PNP_DUALSOT-363_1
designator Q?, comment Dual PNP Transistors in Single Package    The BCM857BS puts two PNP transistors in a single package.   Bipolar (BJT) Transistor Array 2 PNP (Dual) 45V 100mA 100MHz 200mW Surface Mount SOT-363   Datasheet   SparkFun Products: SparkFun Pi Servo HAT V2
GateName_1: G1; GateName_2: G2; DeviceSetName: TRANS_PNP_DUAL; PROD_ID: TRANS-14386; SymbolName_1: PNP; SymbolName_2: PNP; DeviceName: SOT-363; LibraryName: SparkFun-DiscreteSemi; Package: SOT363_PHILIPS
footprint SOT363_PHILIPS
part A pins: 1 E, 2 B, 6 C
part B pins: 3 C, 4 E, 5 B

## TRANS_PNP_RES-DDTB142TC
designator Q?, comment PNP transistor with built in base resistor    Current controlled device with built in current control for tighter layouts.   Link to datasheet.   SparkFun Products: SparkFun OpenSegment Serial Display - White  SparkFun OpenSegment Serial Display - Red
GateName_1: Q1; SymbolName_1: PNP_RESISTOR; DeviceName: -DDTB142TC; DeviceSetName: TRANS_PNP_RES; PROD_ID: TRANS-11479; LibraryName: SparkFun-DiscreteSemi; Package: SOT23-3
footprint SOT23-3
pins: 1 B, 2 E, 3 C

## TRIAC-Z0103MN
designator Q?, comment Bidirectional triode thyristor (TRIAC)    Four quadrant TRIAC. Useful for EL Wire Applications     Link to datasheet   SparkFun Products: SparkFun EL Sequencer  SparkFun EL Escudo Dos
GateName_1: G$1; SymbolName_1: TRIAC-TAB; DeviceName: -Z0103MN; PROD_ID: TRANS-09120; LibraryName: SparkFun-DiscreteSemi; DeviceSetName: TRIAC; Package: SOT223
footprint SOT223
pins: 1 T1 (io), 2 T2@1, 3 G (io), 4 T2@2

## TRIAC_OPTOCOUPLER-MOC3063SM
designator U?, comment Zero-cross Triac Driver Optocoupler    SImplifies logic control of 115/240 VAC power. Zero voltage crossing to minimize conducted and radiated line noise.   Link to datasheet   Emitter: VF: 1.3V IFT: 5 mA   Detector: VDRM: 600V ITSM: 1A VISO: 4170V DV&frasl;dt: 1500V&frasl;Âµs   SparkFun Products: SparkFun EL Sequencer  SparkFun EL Escudo Dos
GateName_1: G$1; SymbolName_1: OPTOTRIAC_ZC; DeviceName: -MOC3063SM; DeviceSetName: TRIAC_OPTOCOUPLER; PROD_ID: IC-10683; LibraryName: SparkFun-DiscreteSemi; Package: DIP8SMD
footprint DIP8SMD
pins: 1 A (io), 2 K (io), 4 T2 (io), 6 T1 (io)

## TVS_DIODE_ARRAY_4DT1042-04SO-7
designator D?
GateName_1: G$1; SymbolName_1: TVS_DIODE_ARRAY_4; DeviceName: DT1042-04SO-7; PROD_ID: DIO-14095; LibraryName: SparkFun-DiscreteSemi; DeviceSetName: TVS_DIODE_ARRAY_4; Package: SOT23-6L
footprint SOT23-6L
pins: 1 (io), 2 (io), 3 (io), 4 (io), 5 (io), 6 (io)

## TVS_DIODE_ARRAYSMD
designator U?
GateName_1: U1; SymbolName_1: TVS_DIODE_ARRAY; DeviceName: SMD; PROD_ID: IC-13538; LibraryName: SparkFun-DiscreteSemi; DeviceSetName: TVS_DIODE_ARRAY; Package: SOT-23-6
footprint SOT-23-6
pins: 1 IO1 (io), 2 VSS (io), 3 IO2 (io), 4 IO3 (io), 5 VCC (io), 6 IO4 (io)